# Altium footprint library PCA_9685_lib.PcbLib: 8 footprints
Each footprint in its own frame and in the unit in brackets; x right, y up, seen from the top. Pads: shape width x height; smd on the part's side, far side on the other; paste and mask are expansions set on the pad; w line width, h text height; cw(c..) or ccw(c..) is an arc to the next point about the centre after c.
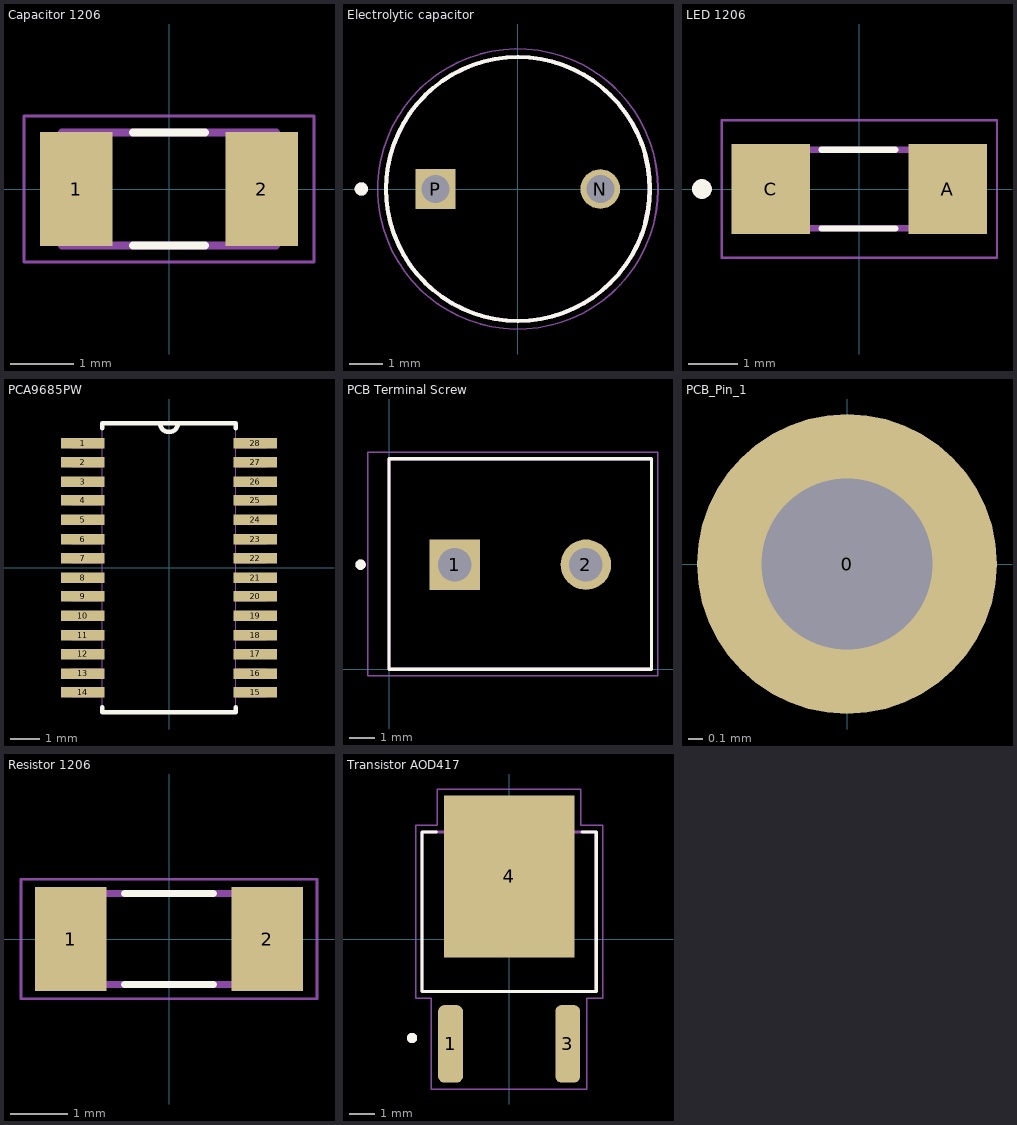
[diagram p0: the footprints below, top view; thin cyan lines are the x and y axes]

## Capacitor 1206 [mm]
pads (2):
  rect 1.16x1.82 smd: 1(-1.475,0) 2(1.475,0)
Top Overlay:
  lines w0.127: -0.57,-0.9 0.57,-0.9 ; -0.57,0.9 0.57,0.9
Mechanical 13:
  lines w0.127: -1.7,-0.9 1.7,-0.9 1.7,0.9 -1.7,0.9 -1.7,-0.9
Mechanical 15:
  lines w0.05: -2.308,-1.158 2.308,-1.158 2.308,1.158 -2.308,1.158 -2.308,-1.158
3D body "step_temp.STEP": height 1.78, standoff 0, extent -1.6,-0.8 1.6,0.8

## Electrolytic capacitor [mm]
pads (2):
  round 1.2 hole 0.85: N(2.5,0)
  rect 1.2x1.2 / inner round 1.2 / far side rect 1.2x1.2 hole 0.85: P(-2.5,0)
Top Overlay:
  circle w0.127: c0,0 r4
  circle w0.2: c-4.75,0 r0.1
Mechanical 13:
  circle w0.127: c0,0 r4
  circle w0.2: c-4.75,0 r0.1
Mechanical 15:
  circle w0.05: c0,0 r4.25
3D body "step_temp.STEP": height 15, standoff -17, extent -4,-3.997 4,3.997

## LED 1206 [mm]
height 1.2
pads (2):
  rect 1.6x1.82 smd: A(1.8,0) C(-1.8,0)
Top Overlay:
  circle w0.2: c-3.2,0 r0.1
  lines w0.127: -0.769,0.8 0.73,0.8 ; -0.769,-0.802 0.73,-0.802
Mechanical 13:
  circle w0.2: c-3.2,0 r0.1
  lines w0.127: -1.6,-0.8 -1.6,0.8 1.6,0.8 1.6,-0.8 -1.6,-0.8
Mechanical 15:
  lines w0.05: -2.8,-1.4 2.8,-1.4 2.8,1.4 -2.8,1.4 -2.8,-1.4
3D body "LTST-C230KFKT.STEP": height 1.12, standoff 0.02, extent -1.6,-0.8 1.6,0.8

## PCA9685PW [mil]
pads (28):
  rect 58x14 smd: 1(-115,166) 2(-115,141) 3(-115,115) 4(-115,90) 5(-115,64) 6(-115,38) 7(-115,13) 8(-115,-13) 9(-115,-38) 10(-115,-64) 11(-115,-90) 12(-115,-115) 13(-115,-141) 14(-115,-166) 15(115,-166) 16(115,-141) 17(115,-115) 18(115,-90) 19(115,-64) 20(115,-38) 21(115,-13) 22(115,13) 23(115,38) 24(115,64) 25(115,90) 26(115,115) 27(115,141) 28(115,166)
Top Overlay:
  lines w6: -89,-186 -89,-193 89,-193 89,-186 ; -89,186 -89,193 -12,193 ; 89,186 89,193 12,193 ; -12,193 ccw(c0,193) 12,193 ; -12,193 12,193
Mechanical 13:
  lines w0: -12,193 ccw(c0,193) 12,193 ; -12,193 12,193 ; -12,193 -89,193 -89,-193 89,-193 89,193 12,193 ; -130,-172 -130,-160 -89,-160 -89,-172 -130,-172 ; -130,-147 -130,-135 -89,-135 -89,-147 -130,-147 ; -130,-121 -130,-109 -89,-109 -89,-121 -130,-121 ; -130,-96 -130,-84 -89,-84 -89,-96 -130,-96 ; -130,-70 -130,-58 -89,-58 -89,-70 -130,-70 ; -130,-44 -130,-32 -89,-32 -89,-44 -130,-44 ; -130,-19 -130,-7 -89,-7 -89,-19 -130,-19 ; -130,7 -130,19 -89,19 -89,7 -130,7 ; -130,32 -130,44 -89,44 -89,32 -130,32 ; -130,58 -130,70 -89,70 -89,58 -130,58 ; -130,84 -130,96 -89,96 -89,84 -130,84 ; -130,109 -130,121 -89,121 -89,109 -130,109 ; -130,135 -130,147 -89,147 -89,135 -130,135 ; -130,160 -130,172 -89,172 -89,160 -130,160 ; 89,-172 89,-160 130,-160 130,-172 89,-172 ; 89,-147 89,-135 130,-135 130,-147 89,-147 ; 89,-121 89,-109 130,-109 130,-121 89,-121 ; 89,-96 89,-84 130,-84 130,-96 89,-96 ; 89,-70 89,-58 130,-58 130,-70 89,-70 ; 89,-44 89,-32 130,-32 130,-44 89,-44 ; 89,-19 89,-7 130,-7 130,-19 89,-19 ; 89,7 89,19 130,19 130,7 89,7 ; 89,32 89,44 130,44 130,32 89,32 ; 89,58 89,70 130,70 130,58 89,58 ; 89,84 89,96 130,96 130,84 89,84 ; 89,109 89,121 130,121 130,109 89,109 ; 89,135 89,147 130,147 130,135 89,135 ; 89,160 89,172 130,172 130,160 89,160
3D body "step_temp.STEP": height 43.31, standoff 0, extent -125.98,-190.94 125.98,190.94

## PCB Terminal Screw [mm]
height 10.15
pads (2):
  rect 1.95x1.95 / inner round 1.95 / far side rect 1.95x1.95 hole 1.3: 1(2.54,4.05)
  round 1.95 hole 1.3: 2(7.62,4.05)
Top Overlay:
  circle w0.2: c-1.1,4.05 r0.1
  lines w0.127: 0,0 0,8.15 10.16,8.15 10.16,0 0,0
Mechanical 13:
  circle w0.2: c-1.1,4.05 r0.1
  lines w0.127: 0,0 0,8.15 10.16,8.15 10.16,0 0,0
Mechanical 15:
  lines w0.05: -0.82,-0.25 -0.82,8.4 10.41,8.4 10.41,-0.25 -0.82,-0.25
3D body "1729128.stp": height 9.97, standoff -3.5, extent -0.57,0 10.155,8.15

## PCB_Pin_1 [mm]
pads (1):
  round 2.1 hole 1.2: 0(0,0)
3D body "PIN_1.stp": height 4.55, standoff -3.12, extent -1,-0.999 1,0.999

## Resistor 1206 [mm]
pads (2):
  rect 1.25x1.82 smd: 1(-1.725,0) 2(1.725,0)
Top Overlay:
  lines w0.127: -0.78,-0.8 0.78,-0.8 ; -0.78,0.8 0.78,0.8
Mechanical 13:
  lines w0.127: -1.6,-0.8 1.6,-0.8 1.6,0.8 -1.6,0.8 -1.6,-0.8
Mechanical 15:
  lines w0.05: -2.6,-1.05 2.6,-1.05 2.6,1.05 -2.6,1.05 -2.6,-1.05
3D body "ERJ-U08F12R0V.STEP": height 0.6, standoff 0, extent -1.6,-0.8 1.6,0.8

## Transistor AOD417 [mm]
pads (3):
  rrect50% 0.97x3.02 smd: 1(-2.286,-4.09) 3(2.286,-4.09)
  rect 5.09x6.32 smd paste-4: 4(0,2.44)
Top Overlay:
  circle w0.2: c-3.786,-3.861 r0.1
  lines w0.127: -2.846,4.176 -3.4,4.176 -3.4,-2.044 3.4,-2.044 3.4,4.176 2.846,4.176
Top Paste:
  region: -0.41,-0.45 -2.13,-0.45 -2.13,1.11 -0.41,1.11
  region: 2.13,-0.45 0.41,-0.45 0.41,1.11 2.13,1.11
  region: -0.41,3.77 -2.13,3.77 -2.13,5.33 -0.41,5.33
  region: 2.13,3.77 0.41,3.77 0.41,5.33 2.13,5.33
  region: -0.41,1.66 -2.13,1.66 -2.13,3.22 -0.41,3.22
  region: 2.13,1.66 0.41,1.66 0.41,3.22 2.13,3.22
Mechanical 13:
  circle w0.2: c-3.786,-3.861 r0.1
  lines w0.127: -3.4,-2.044 -3.4,4.176 3.4,4.176 3.4,-2.044 -3.4,-2.044
Mechanical 15:
  lines w0.05: -3.65,-2.32 -3.65,4.43 -2.8,4.43 -2.8,5.85 2.8,5.85 2.8,4.43 3.65,4.43 3.65,-2.32 3.03,-2.32 3.03,-5.85 -3.03,-5.85 -3.03,-2.32 -3.65,-2.32
3D body "AOD417--3DModel-STEP-56544.STEP": height 2.56, standoff -0.04, extent -3.302,-5.587 3.302,4.446